# Altium footprint library CON 43650-0212.PcbLib: 1 footprints
Each footprint in its own frame and in the unit in brackets; x right, y up, seen from the top. Pads: shape width x height; smd on the part's side, far side on the other; paste and mask are expansions set on the pad; w line width, h text height; cw(c..) or ccw(c..) is an arc to the next point about the centre after c.
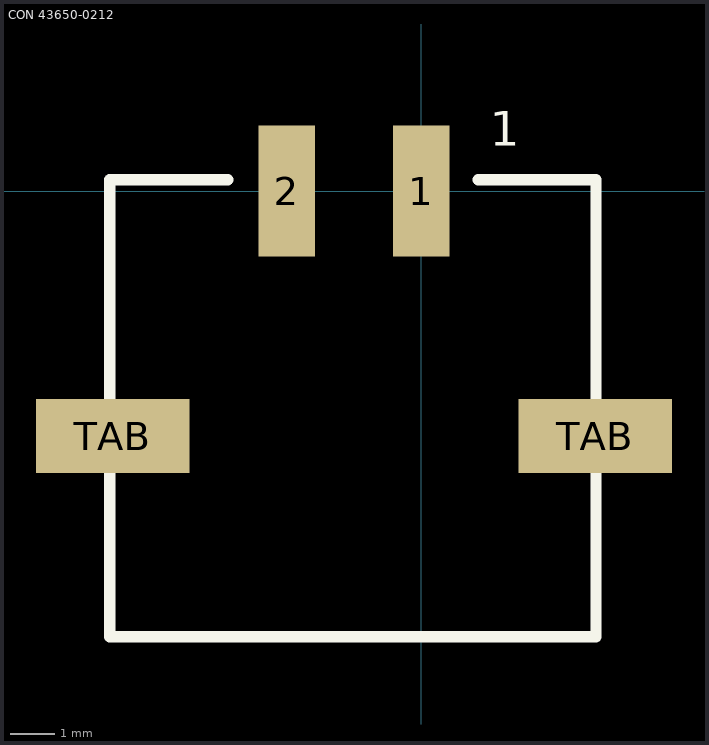
[diagram p0: the footprint, top view; thin cyan lines are the x and y axes]

## CON 43650-0212 [mm]
pads (4):
  rect 1.27x2.92 smd: 1(0,0) 2(-3,0)
  rect 3.43x1.65 smd: TAB(-6.885,-5.47) TAB(3.885,-5.47)
Top Overlay:
  lines w0.254: -4.318,0.254 -6.948,0.254 -6.948,-9.943 3.9,-9.943 3.9,0.254 1.27,0.254
  text "1" at 1.524,1.016 h0.76
3D body: height 5.88, standoff 0.01, extent -8.316,-10.022 5.334,0.878